# EAGLE library part DIN41612-C2-F48 (library Traficon)
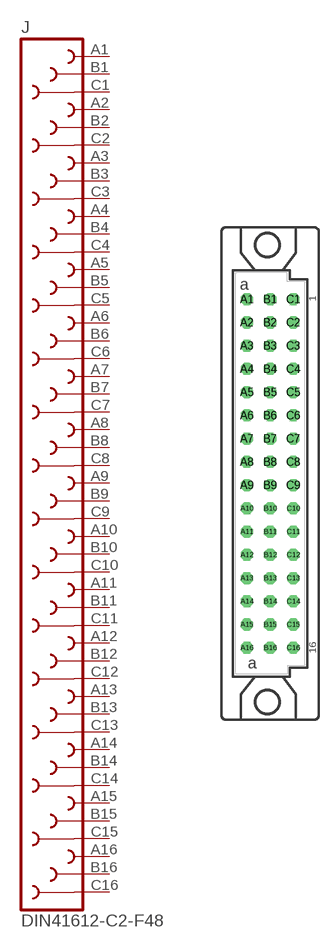
[diagram p138: symbol with the pads of FABC48B2; footprint FABC48B2]

Designator prefix J

## DIN41612-C2-F48  [FABC48B2]
A1  A1  pas
A2  A2  pas
A3  A3  pas
A4  A4  pas
A5  A5  pas
A6  A6  pas
A7  A7  pas
A8  A8  pas
A9  A9  pas
A10  A10  pas
A11  A11  pas
A12  A12  pas
A13  A13  pas
A14  A14  pas
A15  A15  pas
A16  A16  pas
B1  B1  pas
B2  B2  pas
B3  B3  pas
B4  B4  pas
B5  B5  pas
B6  B6  pas
B7  B7  pas
B8  B8  pas
B9  B9  pas
B10  B10  pas
B11  B11  pas
B12  B12  pas
B13  B13  pas
B14  B14  pas
B15  B15  pas
B16  B16  pas
C1  C1  pas
C2  C2  pas
C3  C3  pas
C4  C4  pas
C5  C5  pas
C6  C6  pas
C7  C7  pas
C8  C8  pas
C9  C9  pas
C10  C10  pas
C11  C11  pas
C12  C12  pas
C13  C13  pas
C14  C14  pas
C15  C15  pas
C16  C16  pas

## Footprint FABC48B2 (pad centres in mm)
CONNECTOR female, 48 pins, type C/2, rows ABC, grid 2.54 mm
drill 0.813 octagon: A1 -1.27,19.05; A2 -1.27,16.51; A3 -1.27,13.97; A4 -1.27,11.43; A5 -1.27,8.89; A6 -1.27,6.35; A7 -1.27,3.81; A8 -1.27,1.27; A9 -1.27,-1.27; A10 -1.27,-3.81; A11 -1.27,-6.35; A12 -1.27,-8.89; A13 -1.27,-11.43; A14 -1.27,-13.97; A15 -1.27,-16.51; A16 -1.27,-19.05; B1 1.27,19.05; B2 1.27,16.51; B3 1.27,13.97; B4 1.27,11.43; B5 1.27,8.89; B6 1.27,6.35; B7 1.27,3.81; B8 1.27,1.27; B9 1.27,-1.27; B10 1.27,-3.81; B11 1.27,-6.35; B12 1.27,-8.89; B13 1.27,-11.43; B14 1.27,-13.97; B15 1.27,-16.51; B16 1.27,-19.05; C1 3.81,19.05; C2 3.81,16.51; C3 3.81,13.97; C4 3.81,11.43; C5 3.81,8.89; C6 3.81,6.35; C7 3.81,3.81; C8 3.81,1.27; C9 3.81,-1.27; C10 3.81,-3.81; C11 3.81,-6.35; C12 3.81,-8.89; C13 3.81,-11.43; C14 3.81,-13.97; C15 3.81,-16.51; C16 3.81,-19.05
hole 2.794 at 0.965,-25
hole 2.794 at 0.965,25